# Altium schematic symbol library BLE.SchLib: 62 symbols (part 1 of 2)
Pins are listed as number, name and electrical type; pins without a type are passive.

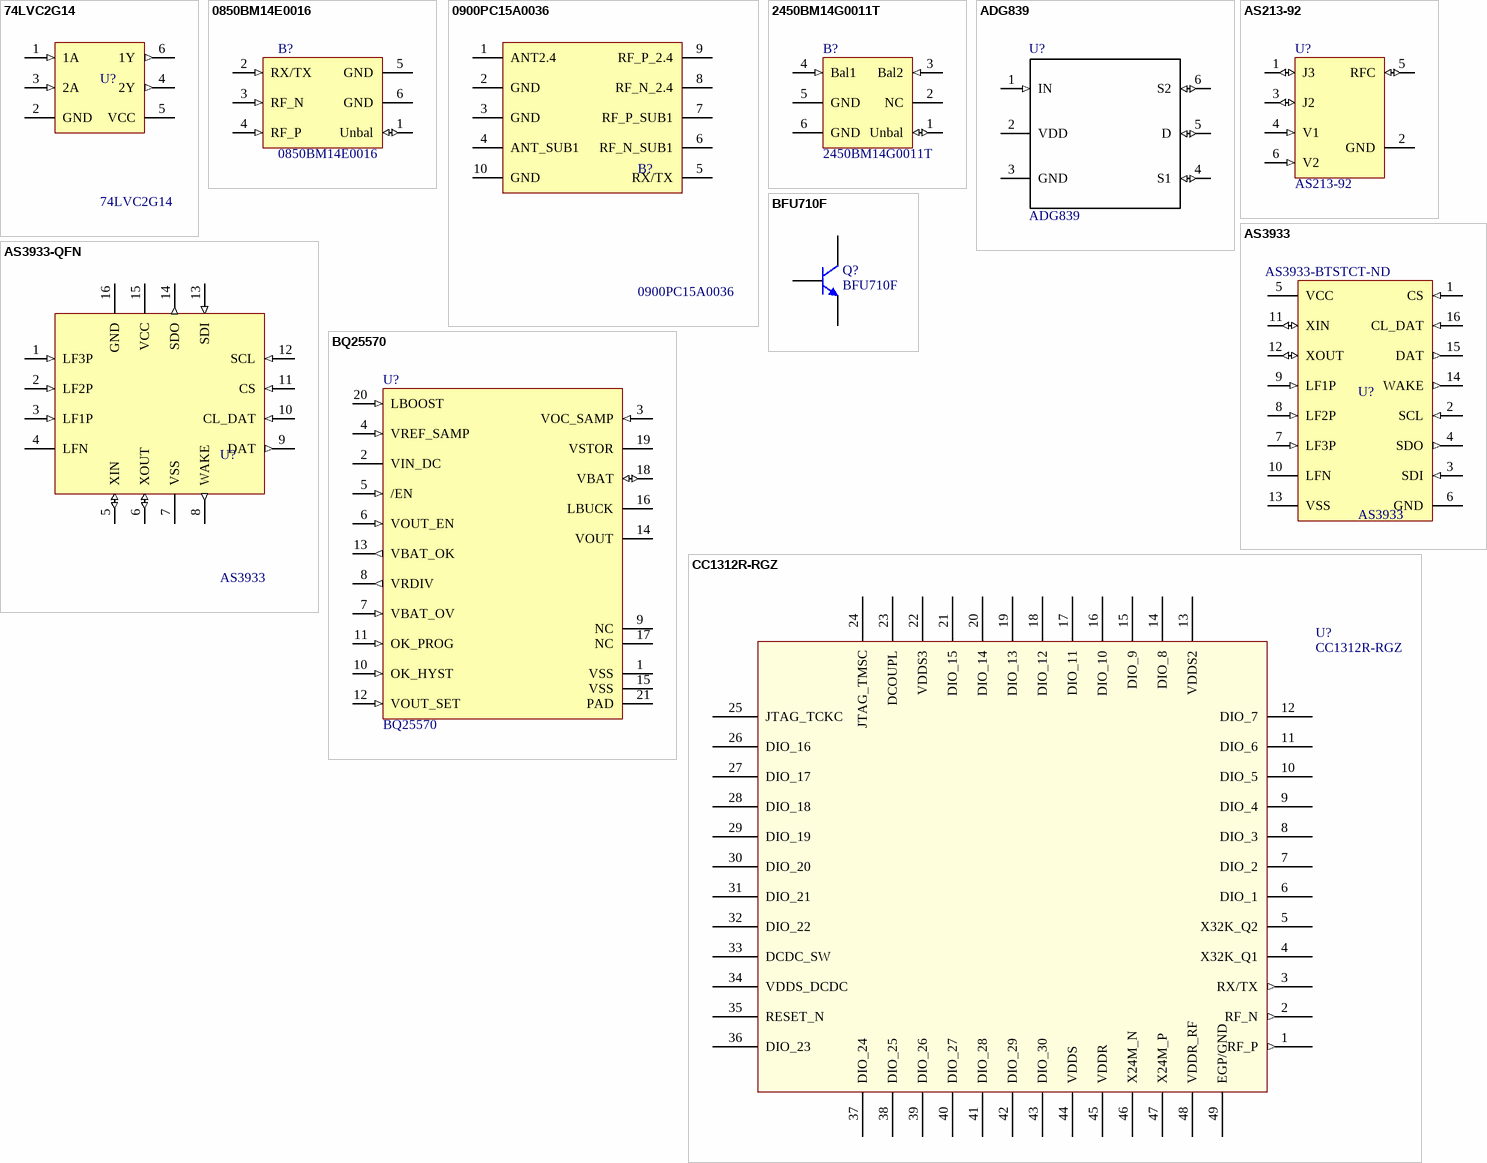
[diagram p0: symbols 74LVC2G14 to CC1312R-RGZ]

## 74LVC2G14
designator U?
IC INVERTER SCHMITT 2CH SC88; Manufacturer: Nexperia; Manufacturer Part Number: 74LVC2G14GW,125; ComponentLink1URL: http://www.nxp.com/documents/data_sheet/74LVC2G14.pdf; ComponentLink1Description: http://www.nxp.com/documents/data_sheet/74LVC2G14.pdf; ComponentLink2URL: http://www.farnell.com/datasheets/2052514.pdf; ComponentLink2Description: http://www.farnell.com/datasheets/2052514.pdf; Supplier 1: Digi-Key; Stock 1: 170794; Pricing 1: 1=0.33, 10=0.27, 100=0.1434, 500=0.0943, 1000=0.0642 (USD); Supplier Part Number 1: 1727-4217-1-ND; Digi-Key Part Number: 1727-4217-1-ND
pins: 1 1A (in), 2 GND (power), 3 2A (in), 4 2Y (out), 5 VCC (power), 6 1Y (out)

## 0850BM14E0016
designator B?
Sub-GHz Impedance Matched Balun + LPF integrated Passive; Manufacturer: Johanson; Manufacturer Part Number: 0850BM14E0016T; Supplier 1: Digi-Key; Stock 1: 0; Pricing 1: 1=0.55, 10=0.488, 25=0.4412, 100=0.3859, 250=0.33864, 500=0.29926, 1000=0.23625 (USD); Mount: Surface Mount; Case/Package: 0603; Case Code (Imperial): 0603; Case Code (Metric): 1608; Packaging: Cut Tape; ComponentLink1URL: http://www.farnell.com/datasheets/2817446.pdf?src-supplier=Element14; ComponentLink1Description: http://www.farnell.com/datasheets/2817446.pdf?src-supplier=Element14; ComponentLink2URL: https://www.johansontechnology.com/datasheets/0850BM14E0016/0850BM14E0016.pdf?src-supplier=Digi-Key; ComponentLink2Description: https://www.johansontechnology.com/datasheets/0850BM14E0016/0850BM14E0016.pdf?src-supplier=Digi-Key; Supplier Part Number 1: 712-1621-1-ND
footprint JT-0850BM14E0016 (Chip Array, 6-Leads, Body 1.6x0.8mm, Pitch 0.5mm)
pins: 1 Unbal (io) "Unbalanced Port", 2 RX/TX (in), 3 RF_N (in) "Balanced Port RF_N", 4 RF_P (in) "Balanced Port", 5 GND, 6 GND (power)

## 0900PC15A0036
designator B?
862 - 928MHz, 2.4 - 2.5GHz Integrated Impedance-matched Balun Filter; Manufacturer: Johanson; Manufacturer Part Number: 0900PC15A0036E; Supplier 1: Digi-Key; Stock 1: 14514; Pricing 1: 1=0.69, 10=0.61, 25=0.5512, 100=0.4824, 250=0.42328, 500=0.37408, 1000=0.29532 (USD); Supplier Part Number 1: 712-1760-1-ND
footprint JT-0900PC15A0036 (Chip Array, 6-Leads, Body 1.6x0.8mm, Pitch 0.5mm)
pins: 1 ANT2.4, 2 GND (power), 3 GND (power), 4 ANT_SUB1, 5 RX/TX, 6 RF_N_SUB1, 7 RF_P_SUB1, 8 RF_N_2.4, 9 RF_P_2.4, 10 GND (power)

## 2450BM14G0011T
designator B?
RF Balun 2.4GHz ~ 2.5GHz 50 / - Ohm 0603 (1608 Metric); Manufacturer: Johanson; Supplier 1: Digi-Key; Supplier Part Number 1: 712-1620-6-ND; Manufacturer Part Number: 2450BM14G0011T; Digi-Key Part Number: 712-1620-1-ND
footprint JT-2450BM14G0011T (Chip Array, 6-Leads, Body 1.6x0.8mm, Pitch 0.5mm)
pins: 1 Unbal (io) "Unbalanced Port", 2 NC (power) "GND", 3 Bal2 (in) "Balanced Port", 4 Bal1 (in) "Balanced Port", 5 GND, 6 GND (power)

## ADG839
designator U?
2:1Multiplexer; Manufacturer: Analog Devices; Manufacturer Part Number: ADG839YKSZ-REEL7; Throw Configuration: SPDT; Number of Bits: 1; Min Supply Voltage: 1.65V; Max Supply Voltage: 3.6V; Number of Outputs: 2; Max Power Dissipation: 3.6uW; On-State Resistance: 500mR; Operating Supply Current: 3nA; -3db Bandwidth: 25MHz; Turn-On Delay Time: 16ns; Turn-Off Delay Time: 8.5ns; Max Supply Current: 1uA; Supply Type: Single; Polarity: Non-Inverting; High Level Output Current: 300mA; Test Frequency: 100kHz; Insertion Loss: 0.01dB; Supplier 1: Digi-Key; Stock 1: 3303; Pricing 1: 1=2.34, 10=2.102, 25=1.9828, 100=1.6893, 250=1.5862, 500=1.38792, 1000=1.15 (USD); Case/Package: SC; Number of Pins: 6; Contact Plating: Gold; Min Operating Temperature: -40°C; Max Operating Temperature: 125°C; Packaging: Tape and Reel; Package Quantity: 3000; Number of Inputs: 1; Number of Channels: 1; Number of Circuits: 1; Power Dissipation: 3.6uW; Bandwidth: 25MHz; Operating Supply Voltage: 3.6V; REACH SVHC: No SVHC; Lead Free: Contains Lead; ComponentLink1URL: https://www.analog.com/media/en/technical-documentation/data-sheets/ADG839.pdf?src-supplier=Digi-Key; ComponentLink1Description: https://www.analog.com/media/en/technical-documentation/data-sheets/ADG839.pdf?src-supplier=Digi-Key; ComponentLink2URL: http://www.analog.com/media/en/technical-documentation/data-sheets/ADG839.pdf?src-supplier=Digi-Key; ComponentLink2Description: http://www.analog.com/media/en/technical-documentation/data-sheets/ADG839.pdf?src-supplier=Digi-Key; ComponentLink3URL: http://www.analog.com/static/imported-files/data_sheets/adg839.pdf?src-supplier=Avnet; ComponentLink3Description: http://www.analog.com/static/imported-files/data_sheets/adg839.pdf?src-supplier=Avnet; ComponentLink4URL: http://www.analog.com/static/imported-files/data_sheets/adg839.pdf?src-supplier=Avnet+Europe; ComponentLink4Description: http://www.analog.com/static/imported-files/data_sheets/adg839.pdf?src-supplier=Avnet+Europe; Supplier Part Number 1: ADG839YKSZ-REEL7CT-ND
footprint ADG839
pins: 1 IN (in), 2 VDD (power), 3 GND (power), 4 S1 (io), 5 D (io), 6 S2 (io)

## AS213-92
designator U?
0.1 to 3.0 GHz GaAs SPDT Switch; Manufacturer: Skyworks Solutions; Manufacturer Part Number: AS213-92LF; Min Supply Voltage: 1.8V; Max Supply Voltage: 5V; Frequency: 100MHz; Impedance: 50R; P1dB: 27dBm; Insertion Loss: 0.5dB; Turn-Off Delay Time: 20ns; Max Frequency: 3GHz; IIP3: 40dBm; Supplier 1: Digi-Key; Stock 1: 36049; Pricing 1: 1=0.96, 10=0.86, 25=0.816, 100=0.6704, 250=0.62672, 500=0.55384, 1000=0.43724 (USD); Mount: Surface Mount; Case/Package: SC; Number of Pins: 6; Contact Plating: Tin; Min Operating Temperature: -40°C; Max Operating Temperature: 85°C; Package Quantity: 1; Packaging: Cut Tape; Turn-On Delay Time: 20ns; Termination: SMD/SMT; Throw Configuration: SPDT; Radiation Hardening: No; REACH SVHC: Unknown; ComponentLink1URL: http://www.farnell.com/datasheets/462710.pdf?src-supplier=Element14; ComponentLink1Description: http://www.farnell.com/datasheets/462710.pdf?src-supplier=Element14; ComponentLink2URL: https://www.verical.com/server-webapp/html/getDatasheet?partID=652760&src-supplier=Verical; ComponentLink2Description: https://www.verical.com/server-webapp/html/getDatasheet?partID=652760&src-supplier=Verical; ComponentLink3URL: http://www.skyworksinc.com/uploads/documents/200193D.pdf?src-supplier=Digi-Key; ComponentLink3Description: http://www.skyworksinc.com/uploads/documents/200193D.pdf?src-supplier=Digi-Key; ComponentLink4URL: http://www.skyworksinc.com/uploads/documents/200193D.pdf?src-supplier=Avnet; ComponentLink4Description: http://www.skyworksinc.com/uploads/documents/200193D.pdf?src-supplier=Avnet; ComponentLink5URL: http://www.mouser.com/ds/2/472/200193D-11074.pdf?src-supplier=Mouser; ComponentLink5Description: http://www.mouser.com/ds/2/472/200193D-11074.pdf?src-supplier=Mouser; Supplier Part Number 1: 863-1238-1-ND
footprint AS213-92
pins: 1 J3 (io), 2 GND (power), 3 J2 (io), 4 V1 (in), 5 RFC (io), 6 V2 (in)

## AS3933
designator U?  Supplier Part Number 1: AS3933-BTSTCT-ND
IC RECEIVER ASK 3CH LP 16TSSOP; Manufacturer: ams; Manufacturer Part Number: AS3933-BTST; Data Rate: 4Kbps; Operating Supply Voltage: 3.6V; Frequency: 150kHz; Number of Channels: 3; ComponentLink1URL: http://www1.futureelectronics.com/doc/AUSTRIAMICROSYSTEMS/AS3933-BTST.pdf; ComponentLink1Description: http://www1.futureelectronics.com/doc/AUSTRIAMICROSYSTEMS/AS3933-BTST.pdf; ComponentLink2URL: //media.digikey.com/pdf/Data%20Sheets/Austriamicrosystems%20PDFs/AS3933_DataBrief.pdf; ComponentLink2Description: //media.digikey.com/pdf/Data%20Sheets/Austriamicrosystems%20PDFs/AS3933_DataBrief.pdf; ComponentLink3URL: https://media.digikey.com/pdf/Data%20Sheets/Austriamicrosystems%20PDFs/AS3933_DataBrief.pdf?src-supplier=Digi-Key; ComponentLink3Description: https://media.digikey.com/pdf/Data%20Sheets/Austriamicrosystems%20PDFs/AS3933_DataBrief.pdf?src-supplier=Digi-Key; ComponentLink4URL: http://www1.futureelectronics.com/doc/AUSTRIAMICROSYSTEMS/AS3933-BQFT.pdf?src-supplier=Future+Electronics; ComponentLink4Description: http://www1.futureelectronics.com/doc/AUSTRIAMICROSYSTEMS/AS3933-BQFT.pdf?src-supplier=Future+Electronics; Supplier 1: Digi-Key; Stock 1: 2994; Pricing 1: 1=5, 10=4.463, 25=4.0164, 100=3.6593, 250=3.30224, 500=2.9631 (USD); Case/Package: TSSOP; Number of Pins: 16; Weight: 0.006102oz; Min Operating Temperature: -40°C; Max Operating Temperature: 85°C; Package Quantity: 1; Packaging: Tape and Reel; Type: Integrated Circuit (IC); Lead Free: Lead Free; ComponentLink5URL: http://www1.futureelectronics.com/doc/AUSTRIAMICROSYSTEMS/AS3933-BTST.pdf?src-supplier=Future+Electronics; ComponentLink5Description: http://www1.futureelectronics.com/doc/AUSTRIAMICROSYSTEMS/AS3933-BTST.pdf?src-supplier=Future+Electronics
footprint AS3933
footprint AS3933QFN
pins: 1 CS (in), 2 SCL (in), 3 SDI (in), 4 SDO (out), 5 VCC (power), 6 GND (power), 7 LF3P (in), 8 LF2P (in), 9 LF1P (in), 10 LFN (power), 11 XIN (io), 12 XOUT (io), 13 VSS (power), 14 WAKE (out), 15 DAT (out), 16 CL_DAT (in)

## AS3933-QFN
designator U?, comment AS3933
RFID Reader IC 15kHz ~ 150kHz 2.4V ~ 3.6V 16-VQFN Exposed Pad; Manufacturer: ams TAOS; Manufacturer Part Number: AS3933-BQFT; Data Rate: 4Kbps; Number of Channels: 3; ComponentLink3URL: https://media.digikey.com/pdf/Data%20Sheets/Austriamicrosystems%20PDFs/AS3933_DataBrief.pdf?src-supplier=Digi-Key; ComponentLink3Description: https://media.digikey.com/pdf/Data%20Sheets/Austriamicrosystems%20PDFs/AS3933_DataBrief.pdf?src-supplier=Digi-Key; ComponentLink4URL: http://www1.futureelectronics.com/doc/AUSTRIAMICROSYSTEMS/AS3933-BQFT.pdf?src-supplier=Future+Electronics; ComponentLink4Description: http://www1.futureelectronics.com/doc/AUSTRIAMICROSYSTEMS/AS3933-BQFT.pdf?src-supplier=Future+Electronics; Supplier 1: Digi-Key; Stock 1: 77288; Pricing 1: 1=5.29, 10=4.725, 25=4.2524, 100=3.8745, 250=3.49652, 500=3.1374 (USD); Case/Package: QFN; Number of Pins: 16; Operating Supply Voltage: 3.6V; Package Quantity: 1000; Frequency: 150kHz; Packaging: Tape and Reel; Lead Free: Lead Free; Supplier Part Number 1: AS3933-BQFTCT-ND
footprint AS3933QFN
pins: 1 LF3P (in), 2 LF2P (in), 3 LF1P (in), 4 LFN (power), 5 XIN (io), 6 XOUT (io), 7 VSS (power), 8 WAKE (out), 9 DAT (out), 10 CL_DAT (in), 11 CS (in), 12 SCL (in), 13 SDI (in), 14 SDO (out), 15 VCC (power), 16 GND (power)

## BFU710F
designator Q?
RF TRANS NPN 2.8V 43GHZ 4DFP; Manufacturer: NXP Semiconductors; Manufacturer Part Number: BFU710F,115; Max Power Dissipation: 136mW; Max Collector Current: 10mA; Collector Base Voltage (VCBO): 10V; Emitter Base Voltage (VEBO): 1V; Frequency: 110GHz; Gain: 14dB; Number of Elements: 1; hFE Min: 200; Supplier 1: Digi-Key; Stock 1: 3735; Pricing 1: 1=0.66, 10=0.566, 100=0.4227, 500=0.3322, 1000=0.2567 (USD); Mount: Surface Mount; Case/Package: SOT-343; Number of Pins: 4; Contact Plating: Tin; Min Operating Temperature: -65°C; Max Operating Temperature: 150°C; Collector Emitter Voltage (VCEO): 2.8V; Package Quantity: 1; Packaging: Tape and Reel; Output Power: 136mW; Transition Frequency: 43GHz; Collector Emitter Breakdown Voltage: 2.8V; Max Breakdown Voltage: 2.8V; Continuous Collector Current: 10mA; Polarity: NPN; Power Dissipation: 136mW; Radiation Hardening: No; Lead Free: Lead Free; ComponentLink1URL: http://www.nxp.com/documents/selection_guide/nxp_rf_manual_15th_edition.pdf; ComponentLink1Description: http://www.nxp.com/documents/selection_guide/nxp_rf_manual_15th_edition.pdf; ComponentLink2URL: http://www.nxp.com/documents/data_sheet/BFU710F.pdf; ComponentLink2Description: http://www.nxp.com/documents/data_sheet/BFU710F.pdf; ComponentLink3URL: http://www.mouser.com/ds/2/302/BFU760F-1125855.pdf; ComponentLink3Description: http://www.mouser.com/ds/2/302/BFU760F-1125855.pdf; Supplier Part Number 1: 568-8456-1-ND
footprint BFU710F (SOT343R - Package for BF1101WR)
pins: 1 E, 2 B, 3 E, 4 C

## BQ25570
designator U?
nano power boost charger and buck converter / for energy harvester powered applications; Manufacturer: Texas Instruments; Manufacturer Part Number: BQ25570RGRT; Output Current: 100mA; Operating Supply Current: 488nA; Min Supply Voltage: 100mV; Max Supply Voltage: 5.1V; Switching Frequency: 1MHz; Digi-Key Part Number: 296-37014-1-ND; Supplier 1: Digi-Key; Stock 1: 2223; Pricing 1: 1=7.94, 10=7.171, 25=6.8372, 100=5.6697 (USD); Mount: Surface Mount; Case/Package: VQFN; Number of Pins: 20; Contact Plating: Gold; Min Operating Temperature: -40°C; Max Operating Temperature: 125°C; Package Quantity: 250; Packaging: Tape and Reel; Radiation Hardening: No; REACH SVHC: No SVHC; Lead Free: Lead Free; ComponentLink1URL: http://www.mouser.com/ds/2/405/bq25570-556801.pdf?src-supplier=Mouser; ComponentLink1Description: http://www.mouser.com/ds/2/405/bq25570-556801.pdf?src-supplier=Mouser; ComponentLink2URL: http://www.ti.com/lit/pdf/sluuaa7?src-supplier=Digi-Key; ComponentLink2Description: http://www.ti.com/lit/pdf/sluuaa7?src-supplier=Digi-Key; ComponentLink3URL: http://www.farnell.com/datasheets/1904809.pdf?src-supplier=Element14; ComponentLink3Description: http://www.farnell.com/datasheets/1904809.pdf?src-supplier=Element14; ComponentLink4URL: http://www.ti.com/lit/ds/symlink/bq25570.pdf?src-supplier=Digi-Key; ComponentLink4Description: http://www.ti.com/lit/ds/symlink/bq25570.pdf?src-supplier=Digi-Key; ComponentLink5URL: http://www.ti.com/lit/ds/symlink/bq25570.pdf?src-supplier=Avnet; ComponentLink5Description: http://www.ti.com/lit/ds/symlink/bq25570.pdf?src-supplier=Avnet; ComponentLink6URL: http://www.ti.com/general/docs/lit/getliterature.tsp?genericPartNumber=BQ25570&&fileType=pdf&src-supplier=Avnet; ComponentLink6Description: http://www.ti.com/general/docs/lit/getliterature.tsp?genericPartNumber=BQ25570&&fileType=pdf&src-supplier=Avnet; Supplier Part Number 1: 296-37014-1-ND
footprint BQ25570 (Boost Charger)
pins: 1 VSS, 2 VIN_DC, 3 VOC_SAMP (in), 4 VREF_SAMP (in), 5 /EN (in), 6 VOUT_EN (in), 7 VBAT_OV (in), 8 VRDIV (out), 9 NC, 10 OK_HYST (in), 11 OK_PROG (in), 12 VOUT_SET (in), 13 VBAT_OK (out), 14 VOUT, 15 VSS, 16 LBUCK, 17 NC, 18 VBAT (io), 19 VSTOR, 20 LBOOST (in), 21 PAD

## CC1312R-RGZ
designator U?
SimpleLink™ High-Performance Sub-1 GHz Wireless MCU; Manufacturer: Texas Instruments; Manufacturer Part Number: CC1312R1F3RGZR; Supplier 1: Digi-Key; Stock 1: 1930; Pricing 1: 1=8.18, 10=7.501, 25=6.8188, 100=6.1368, 250=5.62544, 500=5.11402, 1000=4.60262 (USD); Supplier Part Number 1: 296-CC1312R1F3RGZRCT-ND
footprint QFN50P700X700X100-49N
pins: 1 RF_P (out), 2 RF_N (out), 3 RX/TX (out), 4 X32K_Q1, 5 X32K_Q2, 6 DIO_1, 7 DIO_2, 8 DIO_3, 9 DIO_4, 10 DIO_5, 11 DIO_6, 12 DIO_7, 13 VDDS2, 14 DIO_8, 15 DIO_9, 16 DIO_10, 17 DIO_11, 18 DIO_12, 19 DIO_13, 20 DIO_14, 21 DIO_15, 22 VDDS3, 23 DCOUPL, 24 JTAG_TMSC, 25 JTAG_TCKC, 26 DIO_16, 27 DIO_17, 28 DIO_18, 29 DIO_19, 30 DIO_20, 31 DIO_21, 32 DIO_22, 33 DCDC_SW, 34 VDDS_DCDC, 35 RESET_N, 36 DIO_23, 37 DIO_24, 38 DIO_25, 39 DIO_26, 40 DIO_27, 41 DIO_28, 42 DIO_29, 43 DIO_30, 44 VDDS, 45 VDDR, 46 X24M_N, 47 X24M_P, 48 VDDR_RF, 49 EGP/GND

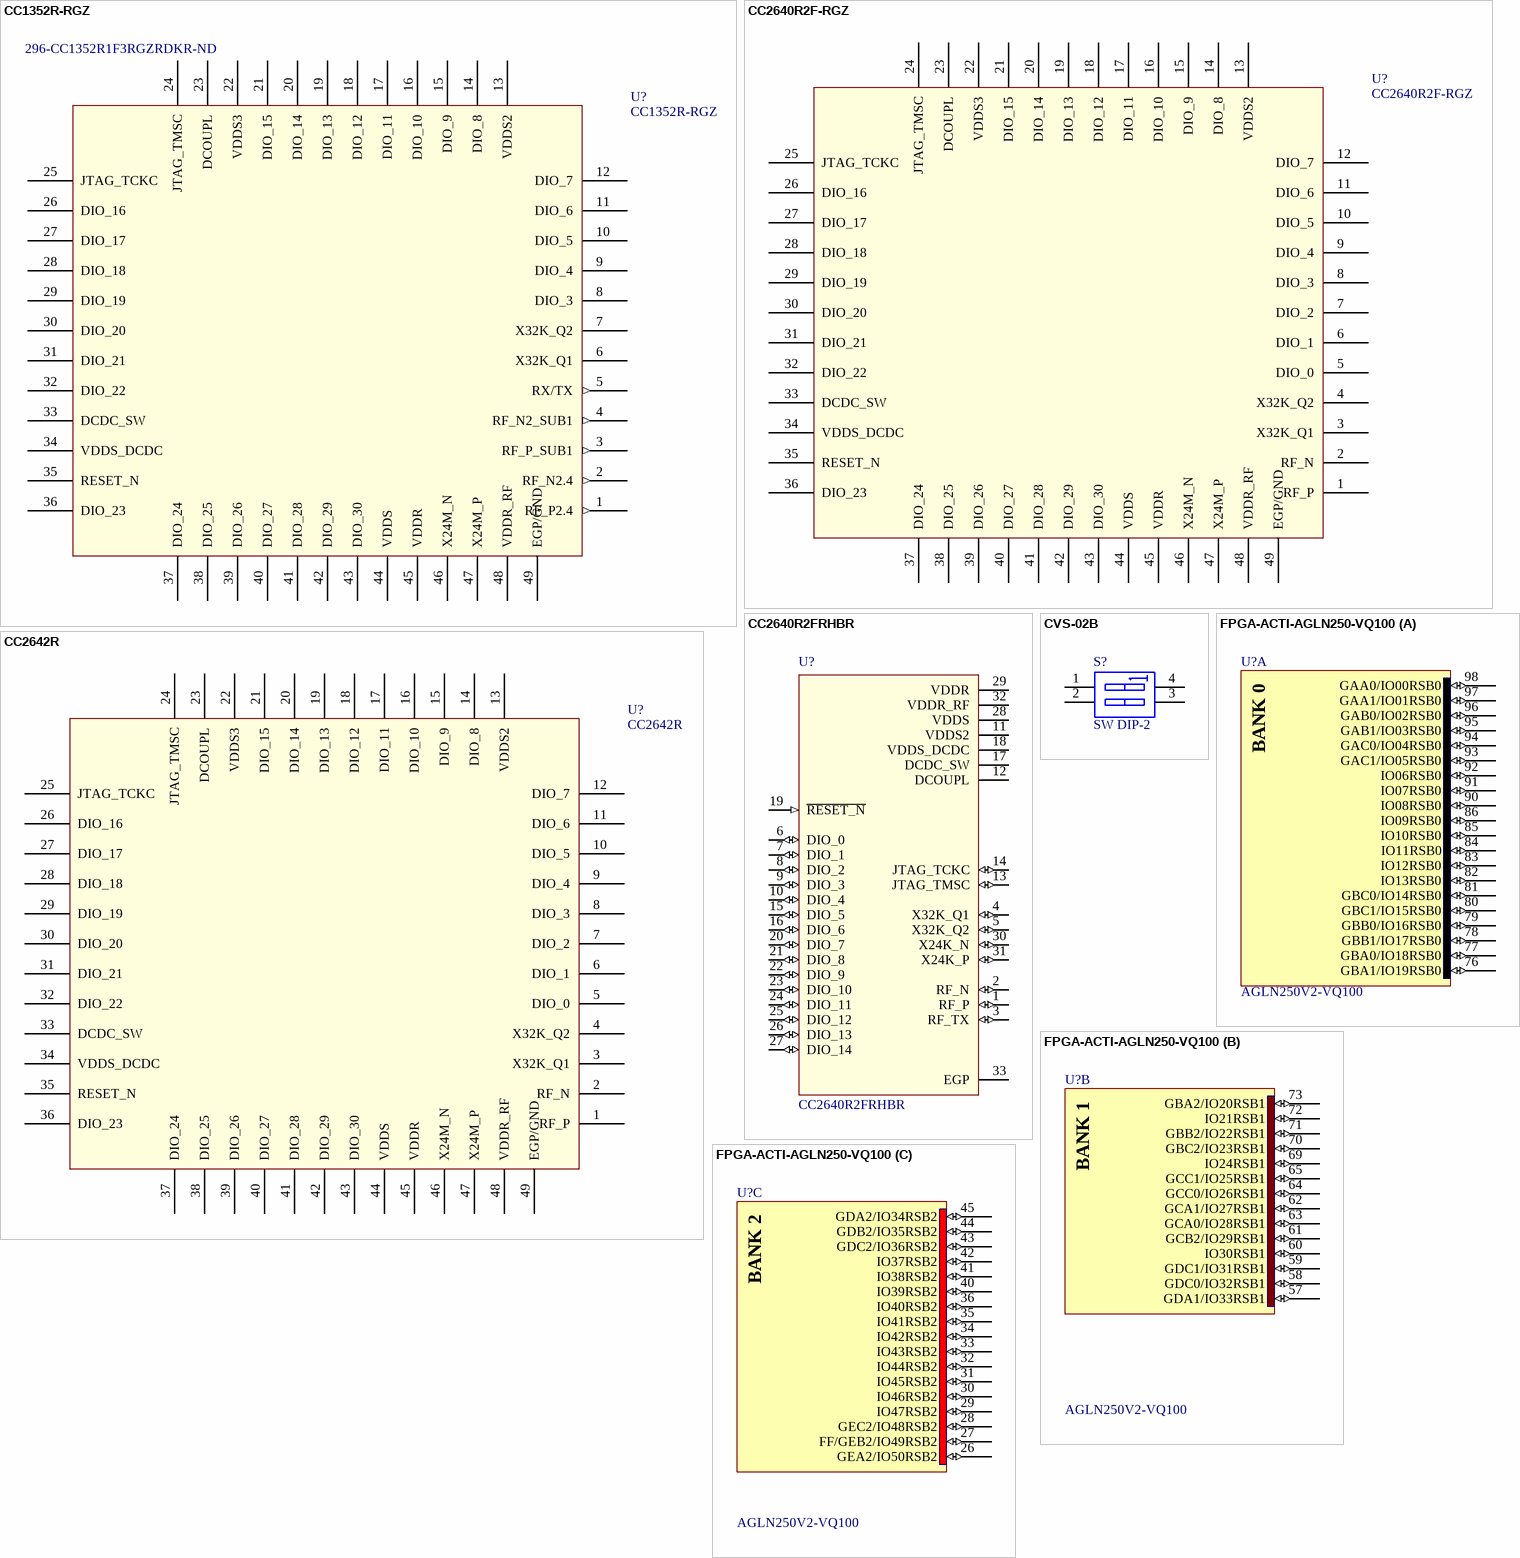
[diagram p1: symbols CC1352R-RGZ to FPGA-ACTI-AGLN250-VQ100]

## CC1352R-RGZ
designator U?  Supplier Part Number 1: 296-CC1352R1F3RGZRDKR-ND
SimpleLink™ High-Performance Multi-Band Wireless MCU; Manufacturer: Texas Instruments; Manufacturer Part Number: CC1352R1F3RGZR; Supplier 1: Digi-Key; Stock 1: 2190; Pricing 1: 1=10.16, 10=9.309, 25=8.4632, 100=7.6167, 250=6.98196, 500=6.34726, 1000=5.71253 (USD)
footprint QFN50P700X700X100-49N
pins: 1 RF_P2.4 (out), 2 RF_N2.4 (out), 3 RF_P_SUB1 (out), 4 RF_N2_SUB1 (out), 5 RX/TX (out), 6 X32K_Q1, 7 X32K_Q2, 8 DIO_3, 9 DIO_4, 10 DIO_5, 11 DIO_6, 12 DIO_7, 13 VDDS2, 14 DIO_8, 15 DIO_9, 16 DIO_10, 17 DIO_11, 18 DIO_12, 19 DIO_13, 20 DIO_14, 21 DIO_15, 22 VDDS3, 23 DCOUPL, 24 JTAG_TMSC, 25 JTAG_TCKC, 26 DIO_16, 27 DIO_17, 28 DIO_18, 29 DIO_19, 30 DIO_20, 31 DIO_21, 32 DIO_22, 33 DCDC_SW, 34 VDDS_DCDC, 35 RESET_N, 36 DIO_23, 37 DIO_24, 38 DIO_25, 39 DIO_26, 40 DIO_27, 41 DIO_28, 42 DIO_29, 43 DIO_30, 44 VDDS, 45 VDDR, 46 X24M_N, 47 X24M_P, 48 VDDR_RF, 49 EGP/GND

## CC2640R2F-RGZ
designator U?
Manufacturer: Texas Instruments; Manufacturer Part Number: CC2640R2FRGZT; Number of GPIO: 10141531; Interface: I2C,SPI,UART; Frequency: 2.4GHz; Data Rate: 2Mbps; Sensitivity: -97dBm; Memory Size: 20KB; Current - Receiving: 5.9mA; Current - Transmitting: 9.1mA; Supplier 1: Digi-Key; Stock 1: 2901; Pricing 1: 1=5.74, 10=5.129, 25=4.6164, 100=4.206 (USD); Min Operating Temperature: -40°C; Max Operating Temperature: 85°C; Packaging: Cut Tape; Supplier Part Number 1: 296-45195-1-ND
footprint QFN50P700X700X100-49N
pins: 1 RF_P, 2 RF_N, 3 X32K_Q1, 4 X32K_Q2, 5 DIO_0, 6 DIO_1, 7 DIO_2, 8 DIO_3, 9 DIO_4, 10 DIO_5, 11 DIO_6, 12 DIO_7, 13 VDDS2, 14 DIO_8, 15 DIO_9, 16 DIO_10, 17 DIO_11, 18 DIO_12, 19 DIO_13, 20 DIO_14, 21 DIO_15, 22 VDDS3, 23 DCOUPL, 24 JTAG_TMSC, 25 JTAG_TCKC, 26 DIO_16, 27 DIO_17, 28 DIO_18, 29 DIO_19, 30 DIO_20, 31 DIO_21, 32 DIO_22, 33 DCDC_SW, 34 VDDS_DCDC, 35 RESET_N, 36 DIO_23, 37 DIO_24, 38 DIO_25, 39 DIO_26, 40 DIO_27, 41 DIO_28, 42 DIO_29, 43 DIO_30, 44 VDDS, 45 VDDR, 46 X24M_N, 47 X24M_P, 48 VDDR_RF, 49 EGP/GND

## CC2640R2FRHBR
designator U?
SimpleLinkâ„¢ BluetoothÂ® low energy Wireless MCU 32-VQFN -40 to 85; Manufacturer: Texas Instruments; Number of GPIO: 10141531; Interface: I2C,SPI,UART; Frequency: 2.4GHz; Data Rate: 2Mbps; Sensitivity: -103dBm; Memory Size: 28KB; Current - Receiving: 5.9mA; Current - Transmitting: 9.1mA; Supplier 1: Digi-Key; Manufacturer Part Number: CC2640R2FRHBR; Stock 1: 5843; Pricing 1: 1=4.66, 10=4.158, 25=3.7424, 100=3.4096, 250=3.07692, 500=2.76092, 1000=2.32848 (USD); Min Operating Temperature: -40°C; Max Operating Temperature: 85°C; Packaging: Cut Tape; Supplier Part Number 1: 296-47317-1-ND
footprint CC2640R2F-RHB
pins: 1 RF_P (io), 2 RF_N (io), 3 RF_TX (io), 4 X32K_Q1 (io), 5 X32K_Q2 (io), 6 DIO_0 (io), 7 DIO_1 (io), 8 DIO_2 (io), 9 DIO_3 (io), 10 DIO_4 (io), 11 VDDS2 (power), 12 DCOUPL (power), 13 JTAG_TMSC (io), 14 JTAG_TCKC (io), 15 DIO_5 (io), 16 DIO_6 (io), 17 DCDC_SW (power), 18 VDDS_DCDC (power), 19 ~{RESET_N} (in), 20 DIO_7 (io), 21 DIO_8 (io), 22 DIO_9 (io), 23 DIO_10 (io), 24 DIO_11 (io), 25 DIO_12 (io), 26 DIO_13 (io), 27 DIO_14 (io), 28 VDDS (power), 29 VDDR (power), 30 X24K_N (io), 31 X24K_P (io), 32 VDDR_RF (power), 33 EGP (power)

## CC2642R
designator U?
SimpleLink™ Bluetooth® 5 Low Energy Wireless MCU; Manufacturer: Texas Instruments; Manufacturer Part Number: CC2642R1FRGZT; Number of GPIO: 31; Supplier 1: Digi-Key; Stock 1: 143; Pricing 1: 1=6.82, 10=6.251, 25=5.6828, 100=5.1143 (USD); Min Operating Temperature: -40°C; Max Operating Temperature: 85°C; Supplier Part Number 1: 296-CC2642R1FRGZTCT-ND
footprint QFN50P700X700X100-49N
pins: 1 RF_P, 2 RF_N, 3 X32K_Q1, 4 X32K_Q2, 5 DIO_0, 6 DIO_1, 7 DIO_2, 8 DIO_3, 9 DIO_4, 10 DIO_5, 11 DIO_6, 12 DIO_7, 13 VDDS2, 14 DIO_8, 15 DIO_9, 16 DIO_10, 17 DIO_11, 18 DIO_12, 19 DIO_13, 20 DIO_14, 21 DIO_15, 22 VDDS3, 23 DCOUPL, 24 JTAG_TMSC, 25 JTAG_TCKC, 26 DIO_16, 27 DIO_17, 28 DIO_18, 29 DIO_19, 30 DIO_20, 31 DIO_21, 32 DIO_22, 33 DCDC_SW, 34 VDDS_DCDC, 35 RESET_N, 36 DIO_23, 37 DIO_24, 38 DIO_25, 39 DIO_26, 40 DIO_27, 41 DIO_28, 42 DIO_29, 43 DIO_30, 44 VDDS, 45 VDDR, 46 X24M_N, 47 X24M_P, 48 VDDR_RF, 49 EGP/GND

## CVS-02B
designator S?, comment SW DIP-2
SWITCH SLIDE DIP SPST 100MA 6V; Manufacturer: Nidec Copal; Manufacturer Part Number: CVS-02TB; Body Material: Polyphenylene; Number of Positions: 2; Electrical Life: 1000Cycles; Actuator Type: Slide (Standard); Pitch: 0.039inch; Washable: No; Supplier 1: Digi-Key; Stock 1: 5360; Pricing 1: 1=2.41, 10=2.336, 25=2.2152, 50=2.0708, 100=2.0227, 250=1.73376, 500=1.6856, 1000=1.4448 (USD); Mount: Surface Mount; Contact Material: Stainless Steel; Contact Plating: Gold; Min Operating Temperature: -40°C; Max Operating Temperature: 85°C; Packaging: Tape and Reel; Current Rating: 100mA; Voltage Rating (DC): 6V; Termination: Gull Wing; Throw Configuration: SPST; Length: 0.118inch; ComponentLink1URL: https://www.nidec-copal-electronics.com/e/catalog/switch/cvs.pdf?src-supplier=Digi-Key; ComponentLink1Description: https://www.nidec-copal-electronics.com/e/catalog/switch/cvs.pdf?src-supplier=Digi-Key; Supplier Part Number 1: 563-1193-1-ND
footprint CVS-02B (SOT343R - Package for BF1101WR)
pins: 1 A1, 2 A2, 3 B2, 4 B1

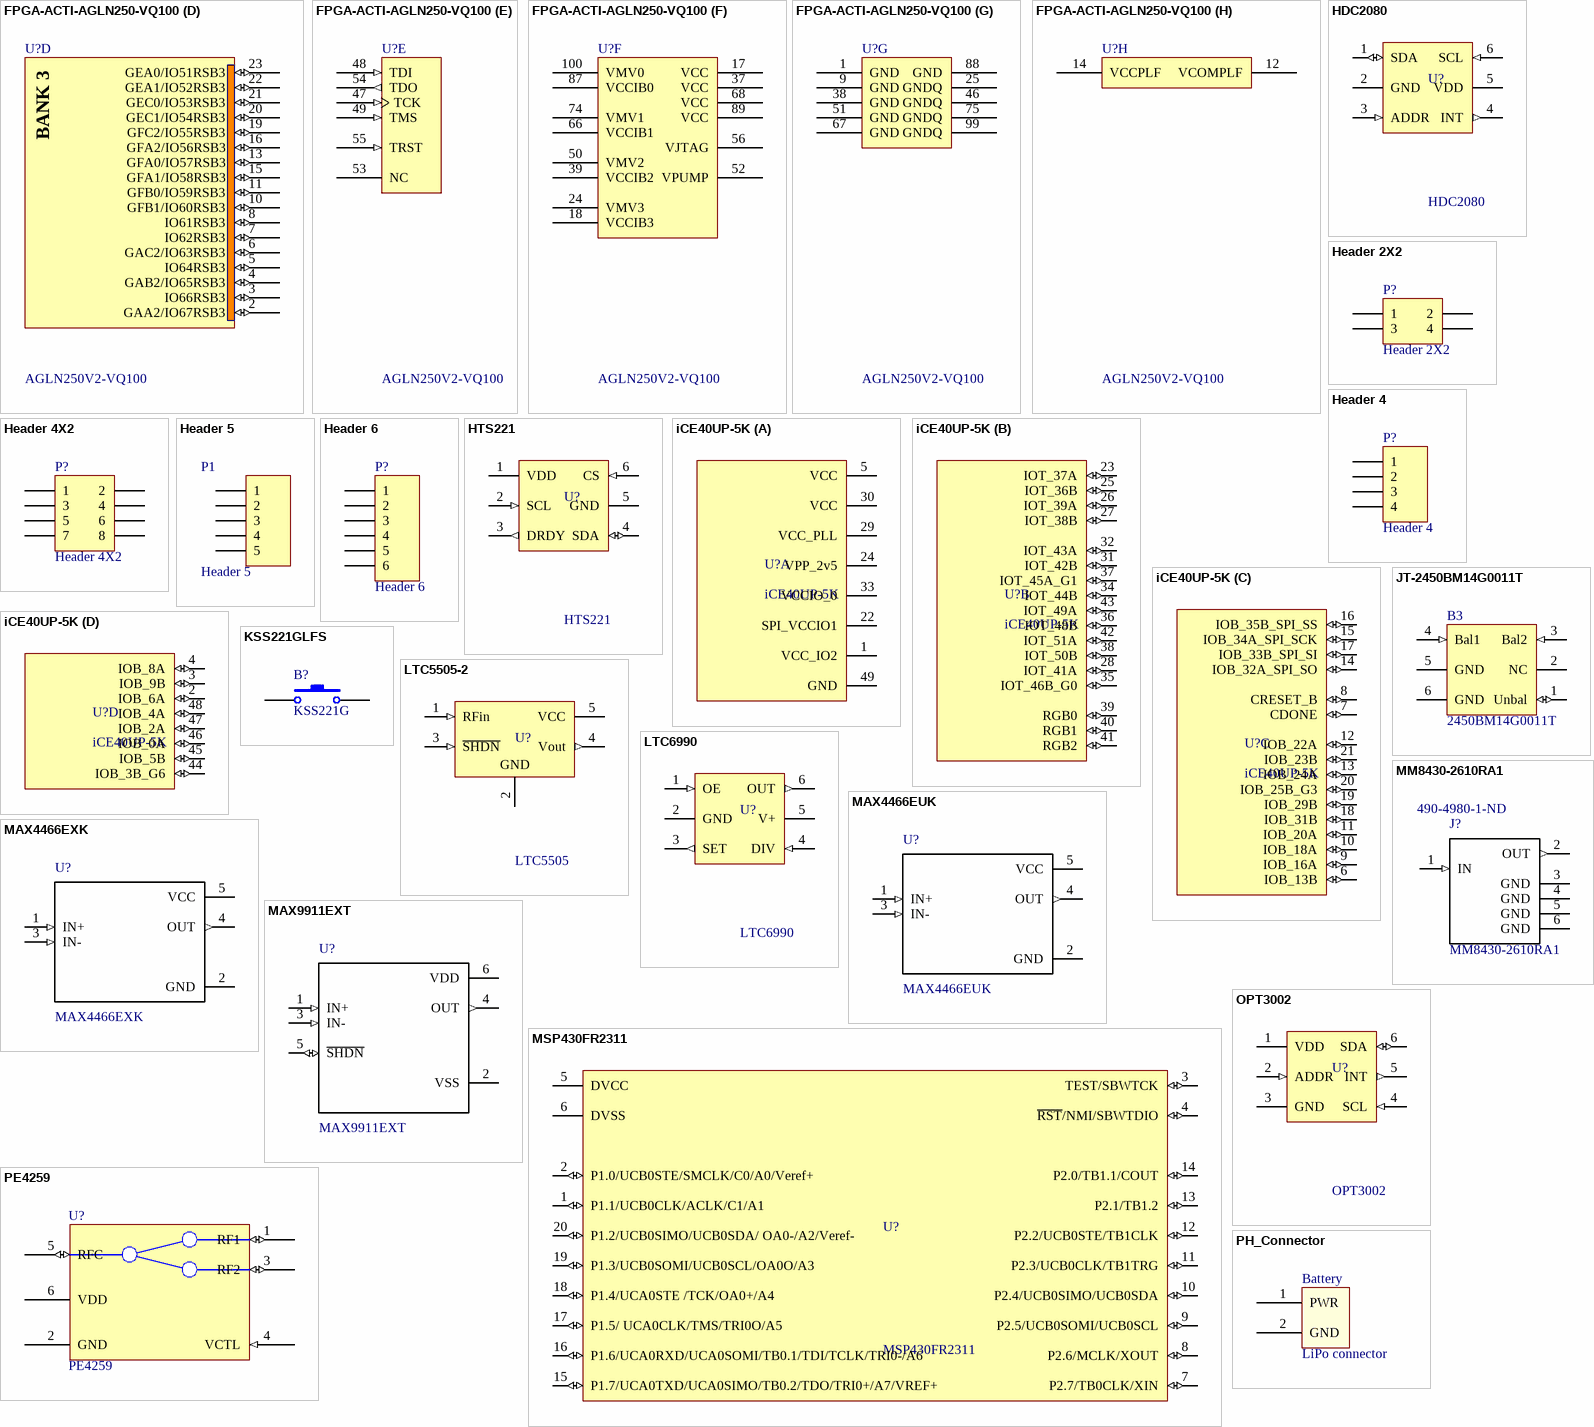
[diagram p2: symbols FPGA-ACTI-AGLN250-VQ100 to PH_Connector]

## FPGA-ACTI-AGLN250-VQ100
designator U?, comment AGLN250V2-VQ100
IGLOO nano Low-Power Flash 1.2 to 1.5V FPGA with Flash*Freeze, 68 User IOs, 250K System Gates, 1Kbit Flash ROM, 100-Pin TQFP, Commercial Grade; Manufacturer: Microsemi; Number of Gates: 250000; Number of Logic Elements/Cells: 6144; RAM Size: 36864b; Number of I/Os: 68; Operating Supply Current: 34uA; Max Frequency: 250MHz; Max Supply Voltage: 1.575V; Min Supply Voltage: 1.14V; Supplier 1: Digi-Key; Manufacturer Part Number: AGLN250V2-VQ100; Stock 1: 0; Pricing 1: 180=16.116 (USD); Mount: Surface Mount; Case/Package: TQFP; Number of Pins: 100; Min Operating Temperature: -20°C; Max Operating Temperature: 70°C; Package Quantity: 90; Operating Supply Voltage: 1.5V; Length: 14mm; Height: 1mm; Width: 14mm; ComponentLink1URL: http://www.microsemi.com/index.php?option=com_docman&task=doc_download&gid=130695; ComponentLink1Description: http://www.microsemi.com/index.php?option=com_docman&task=doc_download&gid=130695; Supplier Part Number 1: AGLN250V2-VQ100-ND
footprint VQ100_N (Thin QFP, 100-Leads, Body 14x14mm, Pitch 0.5mm, IPC Medium Density)
footprint VQ100_L (Thin QFP, 100-Leads, Body 14x14mm, Pitch 0.5mm, IPC High Density)
footprint VQ100_M (Thin QFP, 100-Leads, Body 14x14mm, Pitch 0.5mm, IPC Low Density)
part A pins: 76 GBA1/IO19RSB0 (io), 77 GBA0/IO18RSB0 (io), 78 GBB1/IO17RSB0 (io), 79 GBB0/IO16RSB0 (io), 80 GBC1/IO15RSB0 (io), 81 GBC0/IO14RSB0 (io), 82 IO13RSB0 (io), 83 IO12RSB0 (io), 84 IO11RSB0 (io), 85 IO10RSB0 (io), 86 IO09RSB0 (io), 90 IO08RSB0 (io), 91 IO07RSB0 (io), 92 IO06RSB0 (io), 93 GAC1/IO05RSB0 (io), 94 GAC0/IO04RSB0 (io), 95 GAB1/IO03RSB0 (io), 96 GAB0/IO02RSB0 (io), 97 GAA1/IO01RSB0 (io), 98 GAA0/IO00RSB0 (io)
part B pins: 57 GDA1/IO33RSB1 (io), 58 GDC0/IO32RSB1 (io), 59 GDC1/IO31RSB1 (io), 60 IO30RSB1 (io), 61 GCB2/IO29RSB1 (io), 62 GCA1/IO27RSB1 (io), 63 GCA0/IO28RSB1 (io), 64 GCC0/IO26RSB1 (io), 65 GCC1/IO25RSB1 (io), 69 IO24RSB1 (io), 70 GBC2/IO23RSB1 (io), 71 GBB2/IO22RSB1 (io), 72 IO21RSB1 (io), 73 GBA2/IO20RSB1 (io)
part C pins: 26 GEA2/IO50RSB2 (io), 27 FF/GEB2/IO49RSB2 (io), 28 GEC2/IO48RSB2 (io), 29 IO47RSB2 (io), 30 IO46RSB2 (io), 31 IO45RSB2 (io), 32 IO44RSB2 (io), 33 IO43RSB2 (io), 34 IO42RSB2 (io), 35 IO41RSB2 (io), 36 IO40RSB2 (io), 40 IO39RSB2 (io), 41 IO38RSB2 (io), 42 IO37RSB2 (io), 43 GDC2/IO36RSB2 (io), 44 GDB2/IO35RSB2 (io), 45 GDA2/IO34RSB2 (io)
part D pins: 2 GAA2/IO67RSB3 (io), 3 IO66RSB3 (io), 4 GAB2/IO65RSB3 (io), 5 IO64RSB3 (io), 6 GAC2/IO63RSB3 (io), 7 IO62RSB3 (io), 8 IO61RSB3 (io), 10 GFB1/IO60RSB3 (io), 11 GFB0/IO59RSB3 (io), 13 GFA0/IO57RSB3 (io), 15 GFA1/IO58RSB3 (io), 16 GFA2/IO56RSB3 (io), 19 GFC2/IO55RSB3 (io), 20 GEC1/IO54RSB3 (io), 21 GEC0/IO53RSB3 (io), 22 GEA1/IO52RSB3 (io), 23 GEA0/IO51RSB3 (io)
part E pins: 47 TCK (in), 48 TDI (in), 49 TMS (in), 53 NC, 54 TDO (out), 55 TRST (in)
part F pins: 17 VCC (power), 18 VCCIB3 (power), 24 VMV3 (power), 37 VCC (power), 39 VCCIB2 (power), 50 VMV2 (power), 52 VPUMP (power), 56 VJTAG (power), 66 VCCIB1 (power), 68 VCC (power), 74 VMV1 (power), 87 VCCIB0 (power), 89 VCC (power), 100 VMV0 (power)
part G pins: 1 GND (power), 9 GND (power), 25 GNDQ (power), 38 GND (power), 46 GNDQ (power), 51 GND (power), 67 GND (power), 75 GNDQ (power), 88 GND (power), 99 GNDQ (power)
part H pins: 12 VCOMPLF (power), 14 VCCPLF (power)
part A text: BANK 0
part B text: BANK 1
part C text: BANK 2
part D text: BANK 3

## HDC2080
designator U?
Low-Power Humidity and Temperature Digital Sensor; Manufacturer: Texas Instruments; Manufacturer Part Number: HDC2080DMBR; Interface: I2C; Supplier 1: Digi-Key; Stock 1: 3255; Pricing 1: 1=4.28, 10=3.335, 25=2.7056, 100=2.328, 250=2.13928, 500=1.95052, 1000=1.82468 (USD); Min Operating Temperature: -40°C; Max Operating Temperature: 85°C; ComponentLink1URL: http://www.ti.com/general/docs/suppproductinfo.tsp?distId=10&amp;gotoUrl=http%3A%2F%2Fwww.ti.com%2Flit%2Fgpn%2Fhdc2080&src-supplier=Digi-Key; ComponentLink1Description: http://www.ti.com/general/docs/suppproductinfo.tsp?distId=10&amp;gotoUrl=http%3A%2F%2Fwww.ti.com%2Flit%2Fgpn%2Fhdc2080&src-supplier=Digi-Key; Supplier Part Number 1: 296-52638-1-ND
footprint HDC2080
pins: 1 SDA (io), 2 GND (power), 3 ADDR (in), 4 INT (out), 5 VDD (power), 6 SCL (in)

## Header 2X2
designator P?
Header, 2-Pin, Dual row; Digi-Key Part Number: *; Manufacturer: *; Manufacturer Part Number: *; Rating: *; Value: *
signal-integrity model Connector
footprint HDR2X2 (Connector; Header; 2x2 Position)
pins: 1, 2, 3, 4

## Header 4
designator P?
Header, 4-Pin; Digi-Key Part Number: *; Manufacturer: *; Manufacturer Part Number: *; Rating: *; Value: *
signal-integrity model Connector
footprint HDR1X4 (Connector; Header; 4 Position)
footprint HDR1X4-0.5 (Connector; Header; 4 Position)
pins: 1, 2, 3, 4

## Header 4X2
designator P?
Header, 4-Pin, Dual row; Digi-Key Part Number: *; Manufacturer: *; Manufacturer Part Number: *; Rating: *; Value: *
signal-integrity model Connector
footprint HDR2X4 (Connector; Header; 4x2 Position)
pins: 1, 2, 3, 4, 5, 6, 7, 8

## Header 5
designator P1
Header, 5-Pin; Digi-Key Part Number: *; Manufacturer: *; Manufacturer Part Number: *; Rating: *; Value: *
signal-integrity model Connector
footprint HDR1X5 (Connector; Header; 5 Position)
pins: 1, 2, 3, 4, 5

## Header 6
designator P?
Header, 6-Pin; Digi-Key Part Number: *; Manufacturer: *; Manufacturer Part Number: *; Rating: *; Value: *
signal-integrity model Connector
footprint HDR1X6 (Connector; Header; 6 Position)
pins: 1, 2, 3, 4, 5, 6

## HTS221
designator U?
Capacitive digital sensor for relative humidity and temperature; Manufacturer: STMicroelectronics; Manufacturer Part Number: HTS221TR; Operating Supply Voltage: 3.6V; Interface: I2C,Serial,SPI; Response Time: 10s; Accuracy: 4.5%; Resolution: 16b; Output Type: SPI,I2C,Digital; Supplier 1: Digi-Key; Stock 1: 5105; Pricing 1: 1=3.43, 10=3.084, 100=2.527, 500=2.15122, 1000=1.81427 (USD); Mount: Surface Mount; Number of Pins: 6; Min Operating Temperature: -40°C; Max Operating Temperature: 120°C; Packaging: Tape and Reel; Sensor Type: Temperature; Radiation Hardening: No; Lead Free: Lead Free; ComponentLink1URL: http://www.st.com/st-web-ui/static/active/en/resource/technical/document/datasheet/DM00116291.pdf?src-supplier=Avnet; ComponentLink1Description: http://www.st.com/st-web-ui/static/active/en/resource/technical/document/datasheet/DM00116291.pdf?src-supplier=Avnet; Supplier Part Number 1: 497-15382-1-ND
footprint HTS221
pins: 1 VDD (power), 2 SCL (in), 3 DRDY (out), 4 SDA (io), 5 GND (power), 6 CS (in)

## iCE40UP-5K
designator U?
CE40-ULTRAPLUS, 5280 LUTS, 1.2V; Manufacturer: Lattice Semiconductor; Manufacturer Part Number: ICE40UP5K-SG48I; Supplier 1: Digi-Key; Stock 1: 1063; Pricing 1: 1=6.06, 25=5.3024, 100=5.2052 (USD); Supplier Part Number 1: 220-2212-1-ND
footprint iCE40UP5K-SG48
part A pins: 1 VCC_IO2 (power), 5 VCC (power), 22 SPI_VCCIO1 (power), 24 VPP_2v5 (power), 29 VCC_PLL (power), 30 VCC (power), 33 VCCIO_0 (power), 49 GND (power)
part B pins: 23 IOT_37A (io), 25 IOT_36B (io), 26 IOT_39A (io), 27 IOT_38B (io), 28 IOT_41A (io), 31 IOT_42B (io), 32 IOT_43A (io), 34 IOT_44B (io), 35 IOT_46B_G0 (io), 36 IOT_48B (io), 37 IOT_45A_G1 (io), 38 IOT_50B (io), 39 RGB0 (io), 40 RGB1 (io), 41 RGB2 (io), 42 IOT_51A (io), 43 IOT_49A (io)
part C pins: 6 IOB_13B (io), 7 CDONE (io), 8 CRESET_B (io), 9 IOB_16A (io), 10 IOB_18A (io), 11 IOB_20A (io), 12 IOB_22A (io), 13 IOB_24A (io), 14 IOB_32A_SPI_SO (io), 15 IOB_34A_SPI_SCK (io), 16 IOB_35B_SPI_SS (io), 17 IOB_33B_SPI_SI (io), 18 IOB_31B (io), 19 IOB_29B (io), 20 IOB_25B_G3 (io), 21 IOB_23B (io)
part D pins: 2 IOB_6A (io), 3 IOB_9B (io), 4 IOB_8A (io), 44 IOB_3B_G6 (io), 45 IOB_5B (io), 46 IOB_0A (io), 47 IOB_2A (io), 48 IOB_4A (io)

## JT-2450BM14G0011T
designator B3, comment 2450BM14G0011T
RF Balun 2.4GHz ~ 2.5GHz 50 / - Ohm 0603 (1608 Metric); Manufacturer: Johanson; Supplier 1: Digi-Key; Supplier Part Number 1: 712-1620-6-ND; Manufacturer Part Number: 2450BM14G0011T; Digi-Key Part Number: 712-1620-1-ND
footprint JT-2450BM14G0011T (Chip Array, 6-Leads, Body 1.6x0.8mm, Pitch 0.5mm)
pins: 1 Unbal (io) "Unbalanced Port", 2 NC (power) "GND", 3 Bal2 (in) "Balanced Port", 4 Bal1 (in) "Balanced Port", 5 GND, 6 GND (power)

## KSS221GLFS
designator B?, comment KSS221G
Switch; Manufacturer: ITT C&K; Manufacturer Part Number: KSS221GLFS; Mechanical Life: 100000Cycles; Throw Configuration: SPST; Operating Force: 2N; Max Current Rating: 50mA; Max Voltage Rating (DC): 32V; Contact Resistance: 100mR; Power Rating: 1W; Illumination Type: Non-Illuminated,Illuminated; Insulation Resistance: 1GR; Switch Travel: 0.3mm; Switch Function: Off-Mom; Actuator Length: 0.8mm; Ratings: IP40; Published: 24-Mar-1999; LatestRevisionDate: 17-Jul-2002; LatestRevisionNote: Re-released for DXP Platform.; PackageReference: SPST-2; Publisher: Altium Limited; Supplier 1: Digi-Key; Stock 1: 22437; Pricing 1: 1=0.68, 10=0.655, 25=0.6424, 50=0.6182, 100=0.5334, 250=0.48492, 500=0.46068, 1000=0.36369 (USD); Mount: Surface Mount; Contact Material: Silver; Contact Plating: Silver; Min Operating Temperature: -40°C; Max Operating Temperature: 85°C; Termination: Gull Wing; Packaging: Tape and Reel; Package Quantity: 1; Contact Current Rating: 50mA; Current Rating: 50mA; Voltage Rating (DC): 32V; Orientation: Right Angle; Length: 4.5mm; Width: 7mm; Depth: 4.4mm; Radiation Hardening: No; REACH SVHC: No SVHC; Lead Free: Lead Free; ComponentLink1URL: https://www.verical.com/server-webapp/html/getDatasheet?partID=313005&src-supplier=Verical; ComponentLink1Description: https://www.verical.com/server-webapp/html/getDatasheet?partID=313005&src-supplier=Verical; ComponentLink2URL: http://www.farnell.com/datasheets/19445.pdf?src-supplier=Element14; ComponentLink2Description: http://www.farnell.com/datasheets/19445.pdf?src-supplier=Element14; ComponentLink3URL: http://www1.futureelectronics.com/doc/C%20&%20K%20COMPONENTS/KSS221G%20LFS.pdf?src-supplier=Future+Electronics; ComponentLink3Description: http://www1.futureelectronics.com/doc/C%20&%20K%20COMPONENTS/KSS221G%20LFS.pdf?src-supplier=Future+Electronics; ComponentLink4URL: http://www.ck-components.com/index.php?module=media&action=Display&cmpref=14403&lang=en&width=&height=&format=&alt=&src-supplier=Digi-Key; ComponentLink4Description: http://www.ck-components.com/index.php?module=media&action=Display&cmpref=14403&lang=en&width=&height=&format=&alt=&src-supplier=Digi-Key; ComponentLink5URL: https://www.verical.com/server-webapp/html/getDatasheet?partID=773364&src-supplier=Verical; ComponentLink5Description: https://www.verical.com/server-webapp/html/getDatasheet?partID=773364&src-supplier=Verical; ComponentLink6URL: https://www.ckswitches.com/media/1463/kss.pdf?src-supplier=Digi-Key; ComponentLink6Description: https://www.ckswitches.com/media/1463/kss.pdf?src-supplier=Digi-Key; ComponentLink7URL: http://uk.rs-online.com/webdocs/129c/0900766b8129cd37.pdf?src-supplier=RSComponents; ComponentLink7Description: http://uk.rs-online.com/webdocs/129c/0900766b8129cd37.pdf?src-supplier=RSComponents; ComponentLink8URL: http://www.farnell.com/datasheets/19445.pdf?src-supplier=Farnell; ComponentLink8Description: http://www.farnell.com/datasheets/19445.pdf?src-supplier=Farnell; Supplier Part Number 1: 401-1097-1-ND
footprint KSS221GLFS (Subminiature Side Actuated Tact Switch for SMT)
pins: 1, 2

## LTC5505-2
designator U?, comment LTC5505
IC RF DETECT 300MZ-3.5GHZ TSOT23; Manufacturer: Analog Devices / Linear Technology; Manufacturer Part Number: LTC5505-2ES5#TRMPBF; Nominal Supply Current: 500uA; Frequency: 300MHz; Supplier 1: Digi-Key; Stock 1: 5699; Pricing 1: 1=2.96, 25=2.6396, 100=1.5646, 250=1.4342 (USD); Case/Package: TSOT; Number of Pins: 5; Packaging: Tape and Reel; Package Quantity: 500; Operating Supply Current: 500uA; Length: 2.9mm; Radiation Hardening: No; Lead Free: Lead Free; ComponentLink4URL: http://www.linear.com/docs/1045; ComponentLink4Description: http://www.linear.com/docs/1045; ComponentLink5URL: https://www.verical.com/server-webapp/html/getDatasheet?partID=97066; ComponentLink5Description: https://www.verical.com/server-webapp/html/getDatasheet?partID=97066; ComponentLink6URL: http://datasheet.iiic.cc/linear_technology/LTC5505-2ES5_TRMPBF.pdf; ComponentLink6Description: http://datasheet.iiic.cc/linear_technology/LTC5505-2ES5_TRMPBF.pdf; Supplier Part Number 1: LTC5505-2ES5#TRMPBFCT-ND
footprint LTC5505 (SOT23, 5-Leads, Body 2.9x1.6mm, Pitch 0.95mm, IPC Low Density)
pins: 1 RFin (in) "Input pin. A small capacitor is needed from this pin to ground to assure stability. Typical input capacitor = 1.0uF. Both input and output capacitor grounds should be tied back to the IC ground with no significant impedance (See Datasheet)", 2 GND (power) "Ground pin.", 3 ~{SHDN} (in) "Driving the enable pin (EN) over 1.2V turns on the regulator. Driving this pin below 0.4V puts the regulator into shutdown mode, reducing operating current to 18nA typical.", 4 Vout (out) "Feedback pin (FB) for adjustable versions", 5 VCC (power) "Regulated output voltage pin. A small 1-uF ceramic capacitor is needed from this pin to ground to assure stability.See Input and Output Capacitor Requirements in the Application Information section for more details."

## LTC6990
designator U?
Manufacturer: Analog Devices / Linear Technology; Manufacturer Part Number: LTC6990CS6#TRMPBF; Frequency: 488Hz; Max Supply Voltage: 5.5V; Min Supply Voltage: 2.25V; Operating Supply Current: 235uA; Digi-Key Part Number: ‎LTC6990CS6#TRMPBFCT-ND‎; Supplier 1: Digi-Key; Stock 1: 2766; Pricing 1: 1=3.99, 25=2.6508, 100=2.1918, 250=2.08224 (USD); Mount: Surface Mount; Case/Package: TSOT; Number of Pins: 6; Min Operating Temperature: 0°C; Max Operating Temperature: 70°C; Packaging: Tape and Reel; Package Quantity: 500; Length: 2.9mm; Depth: 1.75mm; Radiation Hardening: No; REACH SVHC: No SVHC; ComponentLink1URL: https://www.verical.com/server-webapp/html/getDatasheet?partID=563181&src-supplier=Verical; ComponentLink1Description: https://www.verical.com/server-webapp/html/getDatasheet?partID=563181&src-supplier=Verical; ComponentLink2URL: http://www.farnell.com/datasheets/1796834.pdf?src-supplier=Farnell; ComponentLink2Description: http://www.farnell.com/datasheets/1796834.pdf?src-supplier=Farnell; ComponentLink3URL: http://www.farnell.com/datasheets/1796834.pdf?src-supplier=Element14; ComponentLink3Description: http://www.farnell.com/datasheets/1796834.pdf?src-supplier=Element14; ComponentLink4URL: http://www.linear.com/docs/29338?src-supplier=Digi-Key; ComponentLink4Description: http://www.linear.com/docs/29338?src-supplier=Digi-Key; ComponentLink5URL: http://www.linear.com/docs/39991?src-supplier=Digi-Key; ComponentLink5Description: http://www.linear.com/docs/39991?src-supplier=Digi-Key; Supplier Part Number 1: LTC6990CS6#TRMPBFCT-ND
footprint LTC6990
pins: 1 OE (in), 2 GND (power), 3 SET (out), 4 DIV (in), 5 V+ (power), 6 OUT (out)

## MAX4466EUK
designator U?
Audio Amp Microphone 1-CH Mono Class-AB 5-Pin SOT-23 T/R; Manufacturer: Maxim Integrated; Manufacturer Part Number: MAX4466EUK+T; Min Supply Voltage: 2.4V; Max Supply Voltage: 5.5V; Gain Bandwidth Product: 600kHz; Power Supply Rejection Ratio (PSRR): 112dB; Supplier 1: Digi-Key; Stock 1: 0; Mount: Surface Mount; Case/Package: SOT-23; Number of Pins: 5; Min Operating Temperature: -40°C; Max Operating Temperature: 85°C; Radiation Hardening: No; ComponentLink1URL: http://datasheets.maximintegrated.com/en/ds/MAX4465-MAX4469.pdf?src-supplier=Avnet; ComponentLink1Description: http://datasheets.maximintegrated.com/en/ds/MAX4465-MAX4469.pdf?src-supplier=Avnet; Supplier Part Number 1: 175-MAX4466EUK+TTR-ND
footprint MAX4466EUK
pins: 1 IN+ (in), 2 GND (power), 3 IN- (in), 4 OUT (out), 5 VCC (power)

## MAX4466EXK
designator U?
Audio Amp Microphone 1-CH Mono Class-AB 5-Pin SC70; Manufacturer: Maxim Integrated; Manufacturer Part Number: MAX4466EXK+T; Min Supply Voltage: 2.4V; Max Supply Voltage: 5.5V; Power Supply Rejection Ratio (PSRR): 112dB; Gain Bandwidth Product: 600kHz; Common Mode Rejection Ratio: 80dB; Max Power Dissipation: 200mW; Number of Channels: 1; Input Bias Current: 100nA; Input Offset Voltage (Vos): 5V; Supply Type: Single; Supplier 1: Digi-Key; Stock 1: 1912; Pricing 1: 1=0.86, 10=0.752, 25=0.7068, 100=0.5358, 250=0.456, 500=0.4332, 1000=0.3306 (USD); Mount: Surface Mount; Case/Package: SC; Number of Pins: 5; Weight: 0.000705oz; Contact Plating: Tin,Matte; Min Operating Temperature: -40°C; Max Operating Temperature: 85°C; Packaging: Tape and Reel; Package Quantity: 2500; Operating Supply Voltage: 5V; Length: 2mm; Height: 0.9mm; Width: 1.25mm; Radiation Hardening: No; REACH SVHC: Unknown; ComponentLink1URL: http://datasheets.maximintegrated.com/en/ds/MAX4465-MAX4469.pdf?src-supplier=Avnet; ComponentLink1Description: http://datasheets.maximintegrated.com/en/ds/MAX4465-MAX4469.pdf?src-supplier=Avnet; ComponentLink2URL: http://datasheets.maximintegrated.com/en/ds/MAX4465-MAX4469.pdf?src-supplier=Digi-Key; ComponentLink2Description: http://datasheets.maximintegrated.com/en/ds/MAX4465-MAX4469.pdf?src-supplier=Digi-Key; ComponentLink3URL: http://datasheets.maximintegrated.com/en/ds/MAX4465-MAX4469.pdf?src-supplier=Avnet+Europe; ComponentLink3Description: http://datasheets.maximintegrated.com/en/ds/MAX4465-MAX4469.pdf?src-supplier=Avnet+Europe; Supplier Part Number 1: MAX4466EXK+CT-ND
pins: 1 IN+ (in), 2 GND (power), 3 IN- (in), 4 OUT (out), 5 VCC (power)

## MAX9911EXT
designator U?
Operational amplifier; 1.8Ã·5.5VDC; Channels: 1; SC70-6; Manufacturer: Maxim; Manufacturer Part Number: MAX9911EXT+T; Common Mode Rejection Ratio: 70dB; Number of Channels: 1; Output Current: 15mA; Slew Rate: 0.1V/µs; Nominal Supply Current: 4uA; Voltage Gain: 120dB; Min Supply Voltage: 1.8V; Max Supply Voltage: 5.5V; Bandwidth: 200kHz; Input Offset Voltage (Vos): 200uV; Input Bias Current: 1pA; Max Frequency: 1kHz; Max Power Dissipation: 245mW; Supplier 1: Digi-Key; Stock 1: 3380; Pricing 1: 1=1, 10=0.893, 25=0.848, 100=0.6511, 250=0.57536, 500=0.54508, 1000=0.51912 (USD); Mount: Surface Mount; Case/Package: SC; Number of Pins: 6; Contact Plating: Gold; Min Operating Temperature: -40°C; Max Operating Temperature: 85°C; Packaging: Tape and Reel; Package Quantity: 2500; Gain Bandwidth Product: 200kHz; Operating Supply Current: 4uA; Number of Circuits: 1; Output Current per Channel: 15mA; Number of Amplifiers: 1; Length: 2.15mm; Height: 1mm; Width: 1.35mm; Radiation Hardening: No; REACH SVHC: No SVHC; Lead Free: Lead Free; ComponentLink1URL: https://datasheets.maximintegrated.com/en/ds/MAX9910-MAX9913.pdf?src-supplier=Digi-Key; ComponentLink1Description: https://datasheets.maximintegrated.com/en/ds/MAX9910-MAX9913.pdf?src-supplier=Digi-Key; ComponentLink2URL: https://media.digikey.com/pdf/Data%20Sheets/Maxim%20PDFs/PartNumberBreakdown_ds.pdf?src-supplier=Digi-Key; ComponentLink2Description: https://media.digikey.com/pdf/Data%20Sheets/Maxim%20PDFs/PartNumberBreakdown_ds.pdf?src-supplier=Digi-Key; ComponentLink3URL: http://datasheets.maxim-ic.com/en/ds/MAX9910-MAX9913.pdf?src-supplier=Avnet+Europe; ComponentLink3Description: http://datasheets.maxim-ic.com/en/ds/MAX9910-MAX9913.pdf?src-supplier=Avnet+Europe; Supplier Part Number 1: MAX9911EXT+TCT-ND
footprint MAX9911EXT
pins: 1 IN+ (in), 2 VSS (power), 3 IN- (in), 4 OUT (out), 5 ~{SHDN} (io), 6 VDD (power)

## MM8430-2610RA1
designator J?  Supplier Part Number 1: 490-4980-1-ND
Test Connectors, Probes, and Cables MICROWAVE CONNECTOR WITH SWTCH HI TEMP; Manufacturer: Murata; Impedance: 50R; Max Frequency: 6GHz; Polarity: Standard; Connector Type: Socket; Digi-Key Part Number: 490-4980-1-ND; Supplier 1: Digi-Key; Manufacturer Part Number: MM8430-2610RA1; Stock 1: 8502; Pricing 1: 1=0.54, 10=0.504, 25=0.4532, 50=0.4028, 100=0.3861, 250=0.35252, 500=0.33572 (USD); Mount: Surface Mount; Case/Package: SMD/SMT; Contact Plating: Gold; Contact Material: Copper Alloy; Housing Color: Silver; Insulation Material: Plastic; Min Operating Temperature: -40°C; Max Operating Temperature: 85°C; Package Quantity: 1; Fastening Type: Push,Pull; Packaging: Tape and Reel; Termination: Solder; Orientation: Straight; Length: 3mm; Depth: 3mm; Radiation Hardening: No; Lead Free: Lead Free; ComponentLink1URL: https://media.digikey.com/pdf/Data%20Sheets/Murata%20PDFs/Microwave_Coaxial_Conn_Cat.pdf?src-supplier=Digi-Key; ComponentLink1Description: https://media.digikey.com/pdf/Data%20Sheets/Murata%20PDFs/Microwave_Coaxial_Conn_Cat.pdf?src-supplier=Digi-Key; ComponentLink2URL: https://www.verical.com/server-webapp/html/getDatasheet?partID=163587&src-supplier=Verical; ComponentLink2Description: https://www.verical.com/server-webapp/html/getDatasheet?partID=163587&src-supplier=Verical; ComponentLink3URL: https://www.verical.com/server-webapp/html/getDatasheet?partID=153066&src-supplier=Verical; ComponentLink3Description: https://www.verical.com/server-webapp/html/getDatasheet?partID=153066&src-supplier=Verical; ComponentLink4URL: http://search.murata.co.jp/Ceramy/image/img/w_hinm/L0391E.pdf?src-supplier=Future+Electronics; ComponentLink4Description: http://search.murata.co.jp/Ceramy/image/img/w_hinm/L0391E.pdf?src-supplier=Future+Electronics
footprint MURATA_MM8430-2610RA1
pins: 1 IN (in), 2 OUT (out), 3 GND (power), 4 GND (power), 5 GND (power), 6 GND (power)

## MSP430FR2311
designator U?
IC MCU 16BIT 3.75KB FRAM 16VQFN; Manufacturer: Texas Instruments; Manufacturer Part Number: MSP430FR2311IPW20R; Frequency: 16MHz; Number of UART Channels: 1; RAM Size: 1024B; Supplier 1: Digi-Key; Stock 1: 22339; Pricing 1: 1=1.65, 10=1.479, 100=1.1891, 500=0.97696, 1000=0.80948 (USD); Case/Package: TSSOP; Min Operating Temperature: -40°C; Max Operating Temperature: 85°C; Lead Free: Lead Free; Supplier Part Number 1: 296-47310-1-ND
footprint MSP430FR2311
pins: 1 P1.1/UCB0CLK/ACLK/C1/A1 (io), 2 P1.0/UCB0STE/SMCLK/C0/A0/Veref+ (io), 3 TEST/SBWTCK (io), 4 ~{RST}/NMI/SBWTDIO (io), 5 DVCC (power), 6 DVSS (power), 7 P2.7/TB0CLK/XIN (io), 8 P2.6/MCLK/XOUT (io), 9 P2.5/UCB0SOMI/UCB0SCL (io), 10 P2.4/UCB0SIMO/UCB0SDA (io), 11 P2.3/UCB0CLK/TB1TRG (io), 12 P2.2/UCB0STE/TB1CLK (io), 13 P2.1/TB1.2 (io), 14 P2.0/TB1.1/COUT (io), 15 P1.7/UCA0TXD/UCA0SIMO/TB0.2/TDO/TRI0+/A7/VREF+ (io), 16 P1.6/UCA0RXD/UCA0SOMI/TB0.1/TDI/TCLK/TRI0-/A6 (io), 17 P1.5/ UCA0CLK/TMS/TRI0O/A5 (io), 18 P1.4/UCA0STE /TCK/OA0+/A4 (io), 19 P1.3/UCB0SOMI/UCB0SCL/OA0O/A3 (io), 20 P1.2/UCB0SIMO/UCB0SDA/ OA0-/A2/Veref- (io)

## OPT3002
designator U?
Light-to-Digital Sensor; Manufacturer: Texas Instruments; Manufacturer Part Number: OPT3002DNPR; Interface: I2C; Throw Configuration: SPST; Load Current: 1.25A; On-State Resistance: 150mR; Wavelength: 505nm; Supplier 1: Digi-Key; Stock 1: 61019; Pricing 1: 1=2.15, 10=1.742, 25=1.394, 100=1.1616, 250=1.07448, 500=1.0164, 1000=0.90024 (USD); Mount: Surface Mount; Case/Package: SOP; Min Operating Temperature: -40°C; Max Operating Temperature: 85°C; Output Type: I2C; Packaging: Tape and Reel; Termination: Gull Wing; Lead Free: Lead Free; ComponentLink1URL: http://www.ti.com/lit/ds/symlink/opt3002.pdf?src-supplier=Digi-Key; ComponentLink1Description: http://www.ti.com/lit/ds/symlink/opt3002.pdf?src-supplier=Digi-Key; Supplier Part Number 1: 296-47274-1-ND
footprint OPT3002
pins: 1 VDD (power), 2 ADDR (in), 3 GND (power), 4 SCL (in), 5 INT (out), 6 SDA (io)

## PE4259
designator U?
SPDT High Power UltraCMOS 10 MHz–3.0 GHz RF Switch; Manufacturer: Peregrine Semiconductor; Manufacturer Part Number: 4259-63; Impedance: 50R; P1dB: 29dBm; IIP3: 55dBm; Supplier 1: Digi-Key; Max Operating Temperature: 85°C; Package Quantity: 1; Number of Pins: 6; Supplier: Digi-Key; Packaging: Tape and Reel; Min Operating Temperature: -40°C; Throw Configuration: SPDT; Supplier Part Number: 1046-1011-1-ND; Supplier Part Number 1: 1046-1011-1-ND; Digi-Key Part Number: 1046-1011-1-ND
footprint PE4259 (Chip Array, 6-Leads, Body 1.6x0.8mm, Pitch 0.5mm)
pins: 1 RF1 (io), 2 GND (power), 3 RF2 (io), 4 VCTL (in), 5 RFC (io), 6 VDD (power)

## PH_Connector
designator Battery, comment LiPo connector
CONN HEADER PH TOP 2POS 2MM; Manufacturer: JST Sales America Inc.; Manufacturer Part Number: B2B-PH-K-S(LF)(SN); Digi-Key Part Number: 455-1704-ND
footprint PH_Connect_2pin (CONN HEADER PH TOP 2POS 2MM)
pins: 1 PWR, 2 GND

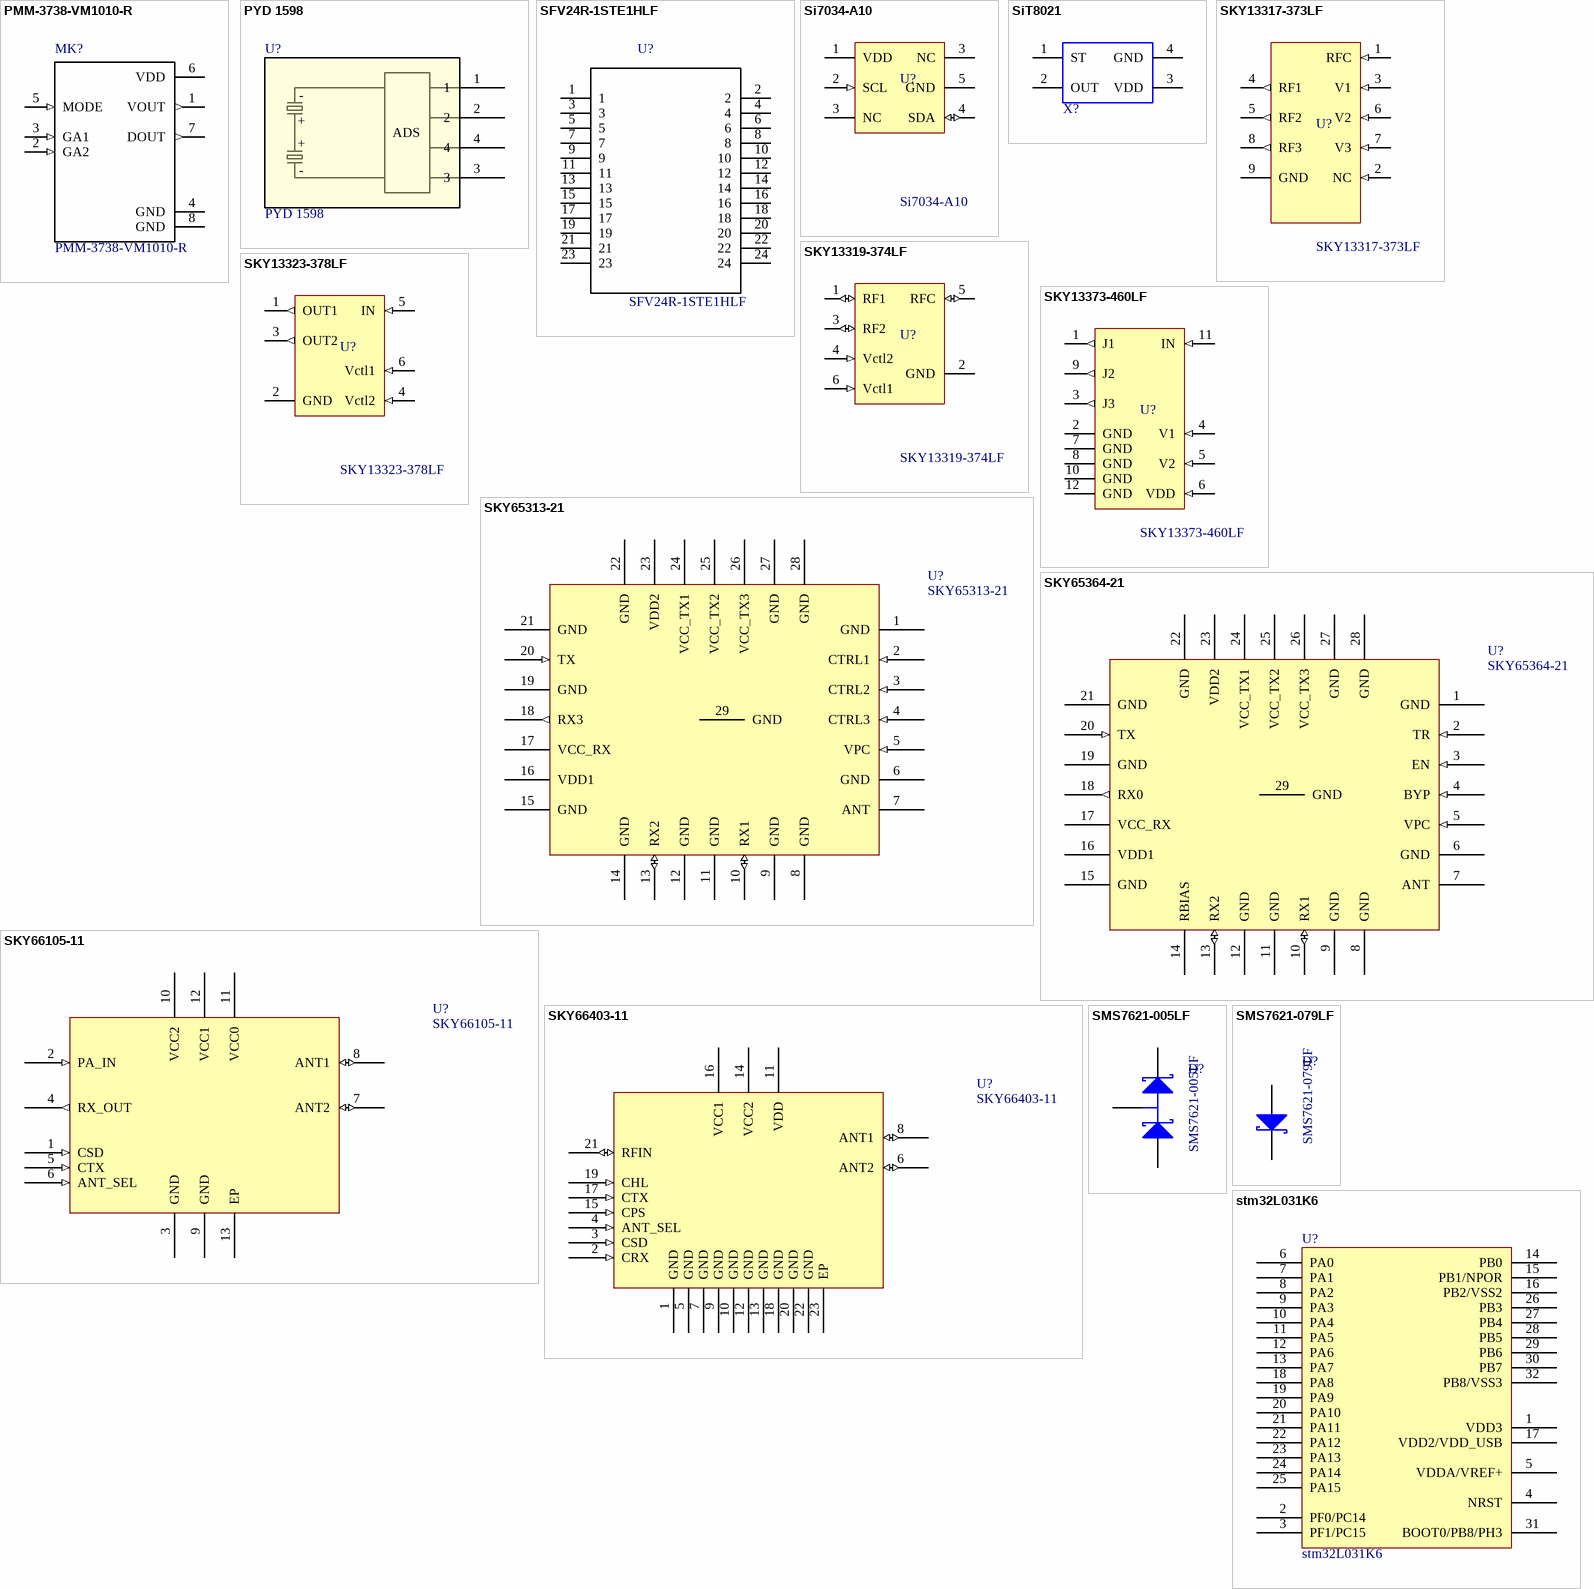
[diagram p3: symbols PMM-3738-VM1010-R to stm32L031K6]

## PMM-3738-VM1010-R
designator MK?
MEMS Microphone Omni-Directional 700 Ohm -38dBV 1.8V Rectangular Solder Pad T/R; Manufacturer: Vesper Technologies Inc.; Manufacturer Part Number: VM1010; Notes: PIEZOELETRIC MEMS MIC SINGLE-END; Digi-Key Part Number: 2022-1001-1-ND
footprint MIC_PMM-3738-VM1010-R
pins: 1 VOUT (out), 2 GA2 (in), 3 GA1 (in), 4 GND (power), 5 MODE (in), 6 VDD (power), 7 DOUT (out), 8 GND (power)

## PYD 1598
designator U?
Motion Detector; Manufacturer: Excelitas; Built_By: EMA_Kyle; Vendor: Excelitas Technology; SourceLibrary: Excelitas_Technology_2020-02-18; Output Type: Digital; Sensing Method: Infrared (IR); Copyright: Copyright (C) 2018 Accelerated Designs. All rights reserved; RefDes: RefDes; Type: DEV; Supplier 1: Digi-Key; Manufacturer Part Number: PYD1598; Stock 1: 0; Pricing 1: 1=12.26, 5=10.75, 10=9.675, 25=8.6, 50=7.955, 100=6.88, 500=6.45, 1000=6.02, 5000=5.719 (USD); ComponentLink1URL: http://www.excelitas.com/Downloads/IR_Innovations_Brochure.pdf?src-supplier=Digi-Key; ComponentLink1Description: http://www.excelitas.com/Downloads/IR_Innovations_Brochure.pdf?src-supplier=Digi-Key; Supplier Part Number 1: 1601-1007-ND
footprint TRANS4_PYD 1598_
pins: 1, 2, 3, 4
text: -; +; ADS

## SFV24R-1STE1HLF
designator U?
Himax Camera Connector; Manufacturer: Amphenol FCI; Description: Conn FFC/FPC Connector SKT 24 POS 0.5mm Solder RA SMD Embossed T/R; Actuator Material: Glass,Polyphenylene; Number of Contacts: 24; Contact Resistance: 30mR; Current Rating: 500mA; Voltage Rating: 50V; Contact Location: Bottom; Insulation Resistance: 100MR; Wire/Cable Type: Straight; Pitch: 0.5mm; Supplier 1: Digi-Key; Manufacturer Part Number: SFV24R-1STE1HLF; Stock 1: 0; Pricing 1: 1=0.76, 10=0.67, 25=0.6308, 50=0.6044, 100=0.5782, 250=0.5256, 500=0.47304, 1000=0.42048 (USD); Mount: Surface Mount; Contact Material: Bronze; Contact Plating: Tin; Housing Color: Black; Housing Material: Polymer; Min Operating Temperature: -55°C; Max Operating Temperature: 105°C; Number of Rows: 1; Termination: Solder; Orientation: Right Angle; Packaging: Tape and Reel; Package Quantity: 3000; Number of Positions: 24; Max Voltage Rating (AC): 50V; Max Voltage Rating (DC): 50V; Length: 17.5mm; Depth: 4.9mm; Radiation Hardening: No; Lead Free: Lead Free; Flammability Rating: UL94 V-0; ComponentLink1URL: http://portal.fciconnect.com/Comergent/fci/drawing/10112793.pdf?src-supplier=Avnet; ComponentLink1Description: http://portal.fciconnect.com/Comergent/fci/drawing/10112793.pdf?src-supplier=Avnet; ComponentLink2URL: https://cdn.amphenol-icc.com/media/wysiwyg/files/drawing/10112793.pdf?src-supplier=Digi-Key; ComponentLink2Description: https://cdn.amphenol-icc.com/media/wysiwyg/files/drawing/10112793.pdf?src-supplier=Digi-Key; ComponentLink3URL: http://portal.fciconnect.com/Comergent//fci/drawing/10112793.pdf?src-supplier=Mouser; ComponentLink3Description: http://portal.fciconnect.com/Comergent//fci/drawing/10112793.pdf?src-supplier=Mouser; Supplier Part Number 1: 609-4320-1-ND
footprint FCI_SFV24R-2STE1LF
pins: 1, 2, 3, 4, 5, 6, 7, 8, 9, 10, 11, 12, 13, 14, 15, 16, 17, 18, 19, 20, 21, 22, 23, 24

## Si7034-A10
designator U?
DIGITAL I2C HUMIDITY AND TEMPERATURE SENSOR; Manufacturer: Silicon Labs; Manufacturer Part Number: SI7034-A10-IMR; Response Time: 18s; Accuracy: 3%; Supplier 1: Digi-Key; Stock 1: 2521; Pricing 1: 1=2.33, 25=2.2448, 100=2.1583 (USD); Mount: Surface Mount; Min Operating Temperature: -40°C; Max Operating Temperature: 125°C; Sensor Type: Temperature; Output Type: I2C; ComponentLink1URL: http://www.silabs.com/documents/public/data-sheets/Si7034.pdf?src-supplier=Digi-Key; ComponentLink1Description: http://www.silabs.com/documents/public/data-sheets/Si7034.pdf?src-supplier=Digi-Key; Supplier Part Number 1: 336-4901-1-ND
footprint Si7034-A10
pins: 1 VDD (power), 2 SCL (in), 3 NC, 3 NC, 4 SDA (io), 5 GND (power)

## SiT8021
designator X?  (value not drawn)
MEMS OSC XO 12.0000MHZ LVCMOS; Manufacturer: SiTime; Manufacturer Part Number: SIT8021AI-J4-XXS-12.288000E; Supplier 1: Digikey; Stock 1: 859; Pricing 1: 1=1.15, 10=1.1, 50=1.0748, 100=0.9213, 500=0.8957 (USD); Supplier Part Number 1: 1473-30881-1-ND
footprint SiT8021 (CRYSTAL, 1.5mm x 0.8mm,  4Pin)
pins: 1 ST, 2 OUT, 3 VDD, 4 GND

## SKY13317-373LF
designator U?
IC RF SWITCH SP3T 6GHZ 12QFN; Manufacturer: Skyworks Solutions; Frequency: 20MHz; Impedance: 50R; Insertion Loss: 0.8dB; Turn-Off Delay Time: 20ns; Turn-On Delay Time: 55ns; P1dB: 26dBm; IIP3: 50dBm; Supplier 1: Digi-Key; Manufacturer Part Number: SKY13317-373LF; Stock 1: 8257; Pricing 1: 1=1.49, 10=1.337, 100=1.075, 500=0.8832, 1000=0.7318 (USD); Mount: Surface Mount; Case/Package: QFN; Number of Pins: 8; Min Operating Temperature: -40°C; Max Operating Temperature: 100°C; Package Quantity: 1; Packaging: Tape and Reel; Max Frequency: 6GHz; Throw Configuration: SP3T; Radiation Hardening: No; ComponentLink1URL: http://www.mouser.com/ds/2/472/SKY13317_373LF_200914K-1132508.pdf; ComponentLink1Description: http://www.mouser.com/ds/2/472/SKY13317_373LF_200914K-1132508.pdf; Supplier Part Number 1: 863-1056-1-ND
footprint SKY13317-373LF
pins: 1 RFC (in), 2 NC (in), 3 V1 (in), 4 RF1 (out), 5 RF2 (out), 6 V2 (in), 7 V3 (in), 8 RF3 (out), 9 GND (power)